# Altium schematic symbol library SCH - POWER - LINEAR VREG - TI LP3873ESX KTT0005B.SchLib: 1 symbol
Pins are listed as number, name and electrical type; pins without a type are passive.

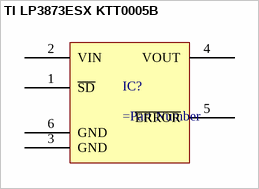
[diagram p0: symbol TI LP3873ESX KTT0005B]

## TI LP3873ESX KTT0005B
designator IC?
pins: 1 ~{SD}, 2 VIN, 3 GND, 4 VOUT, 5 ~{ERROR}, 6 GND